# EAGLE library part UEXT_FULL (library UEXT)
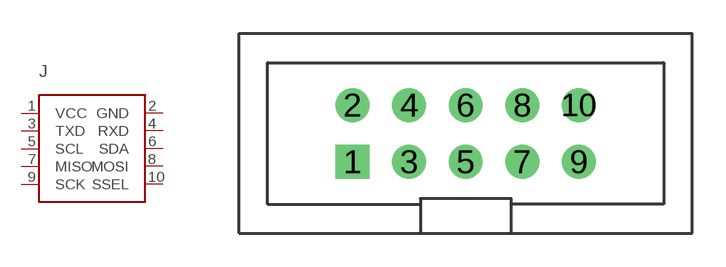
[diagram p0: symbol with the pads of UEXT_FULL_THT_0.1IN; footprint UEXT_FULL_THT_0.1IN]

Designator prefix J

## UEXT_FULLTHT_0.1IN  [UEXT_FULL_THT_0.1IN]
1  VCC  pwr
2  GND  pwr
3  TXD
4  RXD
5  SCL
6  SDA
7  MISO
8  MOSI
9  SCK
10  SSEL

## Footprint UEXT_FULL_THT_0.1IN (pad centres in mm)
drill 1.016 square: 1 -5.08,-1.27
drill 1.016: 2 -5.08,1.27; 3 -2.54,-1.27; 4 -2.54,1.27; 5 0,-1.27; 6 0,1.27; 7 2.54,-1.27; 8 2.54,1.27; 9 5.08,-1.27; 10 5.08,1.27